# EAGLE library part 750319036 (library WE-POE++)
WE-PoE++ Power over Ethernet Plus Plus Transformer Characteristics Suitable for CCM Flyback or Active Clamp Forward Different power levels up to 95W Frequency range: 250-400 kHz Different output voltages available Custom designs available Applications Telecom IndustrialApplications WLAN Access Point Safety cameras Intelligent LED Lighting Networks Details see: www.we-online.com/en/components/products/WE-POE-PLUS-PLUS Created by Ella 2024-01-30 2024(C) Würth Elektronik
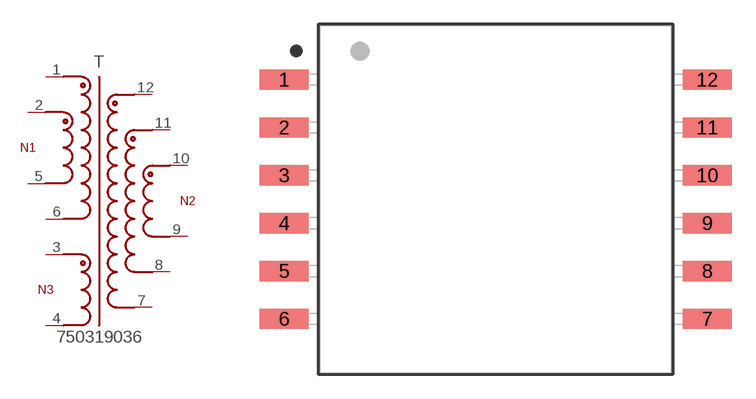
[diagram p22: symbol with the pads of WE-POE++_EFD20_L29.65W21.8H11.43; footprint WE-POE++_EFD20_L29.65W21.8H11.43]

Designator prefix T

## 750319036 (DATASHEET: https://www.we-online.com/redexpert/spec/750319036?ae; HEIGHT: 11.43mm; IO1: 6A; ISAT: 10.4A; L: 16uH; LENGTH: 21.08mm; MOUNT: SMT; PART-NUMBER: 750319036; SIZE: EFD20; TURNS-RATIO: 2.33:1:1; VALUE: 16uH; VAUX: 12V; VERSION: CCM Flyback; VIN: 33 - 57 V (DC); VO1: 12V; VT: 1500VAC; WIDTH: 29.65mm)  [WE-POE++_EFD20_L29.65W21.8H11.43]
1  1  pas
2  2  pas
3  3  pas
4  4  pas
5  5  pas
6  6  pas
7  7  pas
8  8  pas
9  9  pas
10  10  pas
11  11  pas
12  12  pas

## Footprint WE-POE++_EFD20_L29.65W21.8H11.43 (pad centres in mm)
WE-PoE++ Power over Ethernet Plus Plus Transformer Size: EFD20, SMT, 12Pins LXWXH=29.65X21.8X11.43mm
smd 3.05 x 1.27: 1 -13.26,7.5; 2 -13.26,4.5; 3 -13.26,1.5; 4 -13.26,-1.5; 5 -13.26,-4.5; 6 -13.26,-7.5; 7 13.26,-7.5; 8 13.26,-4.5; 9 13.26,-1.5; 10 13.26,1.5; 11 13.26,4.5; 12 13.26,7.5